# EAGLE library part CON-OS6 (library openpcr)
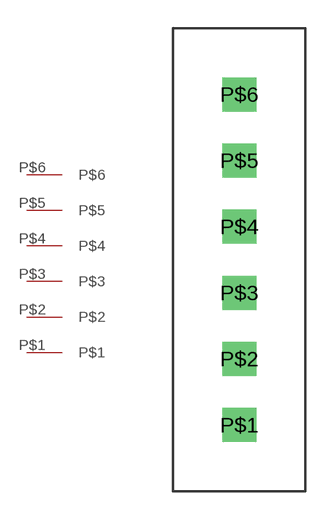
[diagram p2: symbol with the pads of CON-OS6; footprint CON-OS6]

Designator prefix -

## CON-OS6  [CON-OS6]
P$1  P$1
P$2  P$2
P$3  P$3
P$4  P$4
P$5  P$5
P$6  P$6

## Footprint CON-OS6 (pad centres in mm)
drill 1.2 square: P$1 0,0; P$2 0,3.5; P$3 0,7; P$4 0,10.5; P$5 0,14; P$6 0,17.5